# Altium integrated library RD901F-40-15R1-B100K-00DL1.IntLib: 1 symbol
Pins are listed as number, name and electrical type; pins without a type are passive.

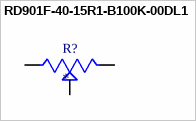
[diagram p0: symbol RD901F-40-15R1-B100K-00DL1]

## RD901F-40-15R1-B100K-00DL1
designator R?
Potentiometers 9mm Linear 100K Round Shaft; MF: Alpha (Taiwan); MP: RD901F-40-15R1-B100K-00DL1; SnapEDA_Link: https://www.snapeda.com/parts/RD901F-40-15R1-B100K-00DL1/Alpha+Taiwan/view-part/?ref=snap; Package: None; Value: *; Check_prices: https://www.snapeda.com/parts/RD901F-40-15R1-B100K-00DL1/Alpha+Taiwan/view-part/?ref=eda
footprint POT_RD901F-40-15R1-B100K-00DL1
pins: 1, 2, 3